# EAGLE library part 2311775-1 (library con-subd)
CONN DSUB HD PLUG 15POS R/A SLDR
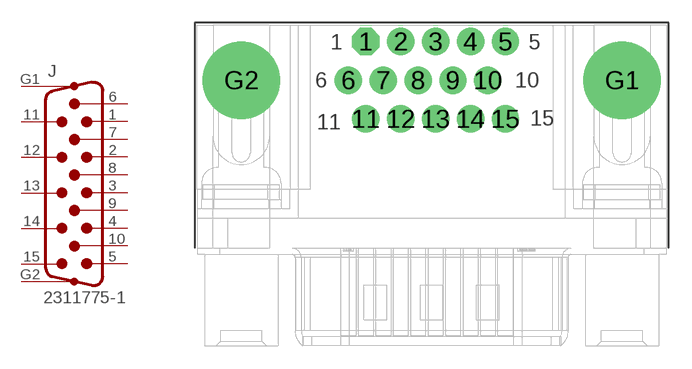
[diagram p103: symbol with the pads of 2311775-1; footprint 2311775-1]

Designator prefix J

## 2311775-1  [2311775-1]
1  1  pas
2  2  pas
3  3  pas
4  4  pas
5  5  pas
6  6  pas
7  7  pas
8  8  pas
9  9  pas
10  10  pas
11  11  pas
12  12  pas
13  13  pas
14  14  pas
15  15  pas
G1  G1  pas
G2  G2  pas

## Footprint 2311775-1 (pad centres in mm)
drill 1.2 octagon: 1 -4.325,2.54
drill 1.2: 2 -2.035,2.54; 3 0.255,2.54; 4 2.545,2.54; 5 4.835,2.54; 6 -5.475,0; 7 -3.185,0; 8 -0.895,0; 9 1.395,0; 10 3.685,0; 11 -4.325,-2.54; 12 -2.035,-2.54; 13 0.255,-2.54; 14 2.545,-2.54; 15 4.835,-2.54
drill 3.18 pad 5.08: G1 12.495,0; G2 -12.495,0